# EAGLE library part STM32F413XX (library pimoroni-ics)
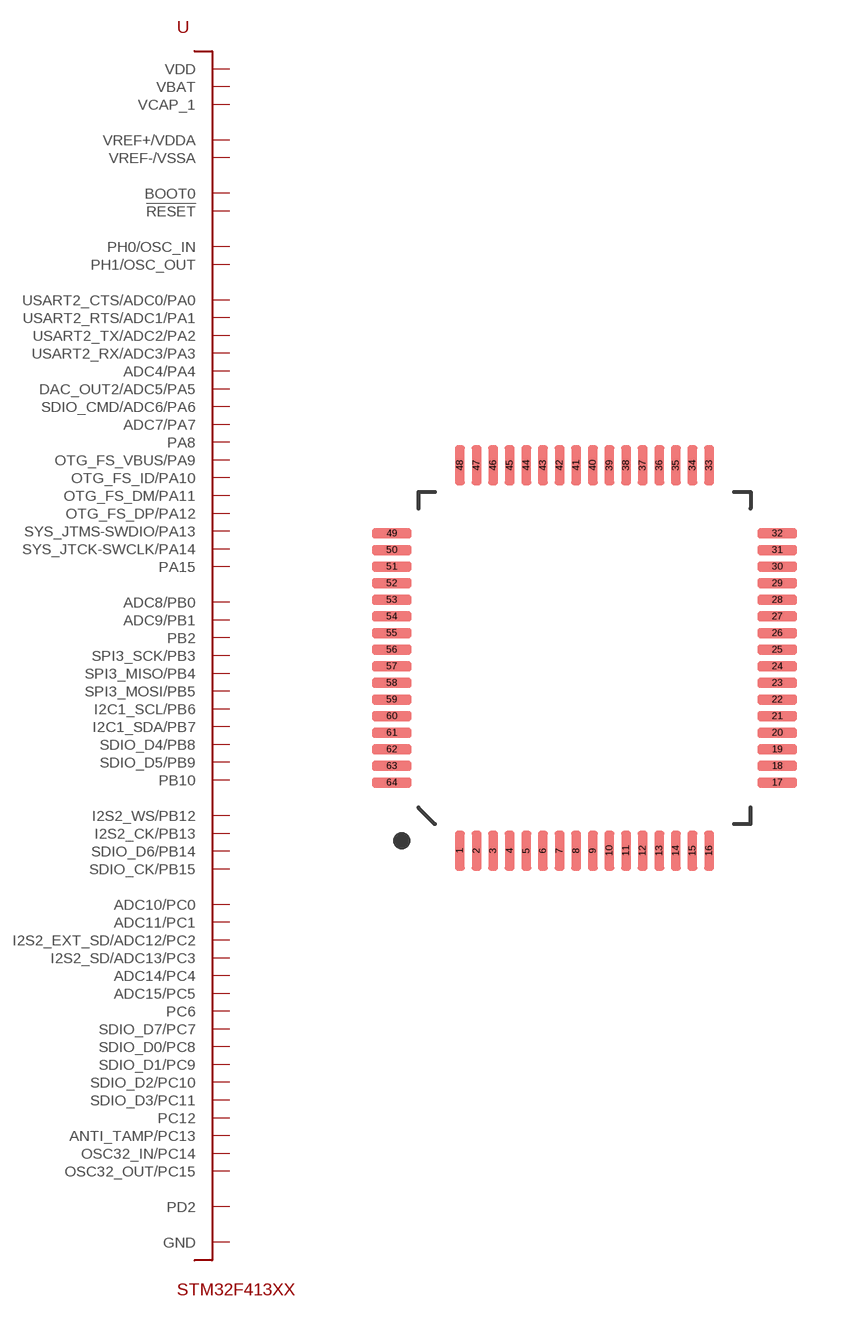
[diagram p45: symbol with the pads of QFP-64; footprint QFP-64]

Designator prefix -

## STM32F413XX  [QFP-64]
1  VBAT
2  ANTI_TAMP/PC13
3  OSC32_IN/PC14
4  OSC32_OUT/PC15
5  PH0/OSC_IN
6  PH1/OSC_OUT
7  !RESET
8  ADC10/PC0
9  ADC11/PC1
10  I2S2_EXT_SD/ADC12/PC2
11  I2S2_SD/ADC13/PC3
12  VREF-/VSSA
13  VREF+/VDDA
14  USART2_CTS/ADC0/PA0
15  USART2_RTS/ADC1/PA1
16  USART2_TX/ADC2/PA2
17  USART2_RX/ADC3/PA3
18  GND
19  VDD
20  ADC4/PA4
21  DAC_OUT2/ADC5/PA5
22  SDIO_CMD/ADC6/PA6
23  ADC7/PA7
24  ADC14/PC4
25  ADC15/PC5
26  ADC8/PB0
27  ADC9/PB1
28  PB2
29  PB10
30  VCAP_1
31  GND
32  VDD
33  I2S2_WS/PB12
34  I2S2_CK/PB13
35  SDIO_D6/PB14
36  SDIO_CK/PB15
37  PC6
38  SDIO_D7/PC7
39  SDIO_D0/PC8
40  SDIO_D1/PC9
41  PA8
42  OTG_FS_VBUS/PA9
43  OTG_FS_ID/PA10
44  OTG_FS_DM/PA11
45  OTG_FS_DP/PA12
46  SYS_JTMS-SWDIO/PA13
47  GND
48  VDD
49  SYS_JTCK-SWCLK/PA14
50  PA15
51  SDIO_D2/PC10
52  SDIO_D3/PC11
53  PC12
54  PD2
55  SPI3_SCK/PB3
56  SPI3_MISO/PB4
57  SPI3_MOSI/PB5
58  I2C1_SCL/PB6
59  I2C1_SDA/PB7
60  BOOT0
61  SDIO_D4/PB8
62  SDIO_D5/PB9
63  GND
64  VDD

## Footprint QFP-64 (pad centres in mm)
smd 0.3 x 1.2: 1 -3.75,-5.8; 2 -3.25,-5.8; 3 -2.75,-5.8; 4 -2.25,-5.8; 5 -1.75,-5.8; 6 -1.25,-5.8; 7 -0.75,-5.8; 8 -0.25,-5.8; 9 0.25,-5.8; 10 0.75,-5.8; 11 1.25,-5.8; 12 1.75,-5.8; 13 2.25,-5.8; 14 2.75,-5.8; 15 3.25,-5.8; 16 3.75,-5.8; 33 3.75,5.8; 34 3.25,5.8; 35 2.75,5.8; 36 2.25,5.8; 37 1.75,5.8; 38 1.25,5.8; 39 0.75,5.8; 40 0.25,5.8; 41 -0.25,5.8; 42 -0.75,5.8; 43 -1.25,5.8; 44 -1.75,5.8; 45 -2.25,5.8; 46 -2.75,5.8; 47 -3.25,5.8; 48 -3.75,5.8
smd 1.2 x 0.3: 17 5.8,-3.75; 18 5.8,-3.25; 19 5.8,-2.75; 20 5.8,-2.25; 21 5.8,-1.75; 22 5.8,-1.25; 23 5.8,-0.75; 24 5.8,-0.25; 25 5.8,0.25; 26 5.8,0.75; 27 5.8,1.25; 28 5.8,1.75; 29 5.8,2.25; 30 5.8,2.75; 31 5.8,3.25; 32 5.8,3.75; 49 -5.8,3.75; 50 -5.8,3.25; 51 -5.8,2.75; 52 -5.8,2.25; 53 -5.8,1.75; 54 -5.8,1.25; 55 -5.8,0.75; 56 -5.8,0.25; 57 -5.8,-0.25; 58 -5.8,-0.75; 59 -5.8,-1.25; 60 -5.8,-1.75; 61 -5.8,-2.25; 62 -5.8,-2.75; 63 -5.8,-3.25; 64 -5.8,-3.75